# Altium schematic symbol library 530480510.SchLib: 1 symbol
Pins are listed as number, name and electrical type; pins without a type are passive.

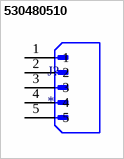
[diagram p0: symbol 530480510]

## 530480510
designator J?
MP: 530480510; Value: *; Price: None; Availability: Unavailable; Package: None
footprint MOLEX_530480510
pins: 1, 2, 3, 4, 5